# EAGLE library part PIN_HEADER_0.05"_6 (library Generic connectors)
0.05" pitch male pin header, 6 positions Measured off the TI RF transciever that Anil needs to make a package for.
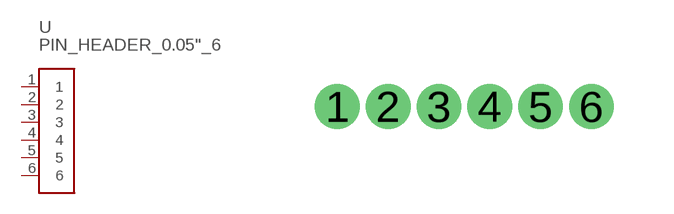
[diagram p1: symbol with the pads of PIN_HEADER_0.05"_6POS; footprint PIN_HEADER_0.05"_6POS]

Designator prefix -

## PIN_HEADER_0.05"_6  [PIN_HEADER_0.05"_6POS]
1  1
2  2
3  3
4  4
5  5
6  6

## Footprint PIN_HEADER_0.05"_6POS (pad centres in mm)
drill 0.61 pad 0.94 round: 1 0,0; 2 1.27,0; 3 2.54,0; 4 3.81,0; 5 5.08,0; 6 6.35,0